# EAGLE library part ESP32-PICO-D4 (library SLJ_wireless)
ESP32 is a single 2.4 GHz Wi-Fi-and-Bluetooth combo chip designed with the TSMC ultra-low-power 40 nm technology. It is designed to achieve the best power and RF performance, showing robustness, versatility and reliability in a wide variety of applications and power scenarios.
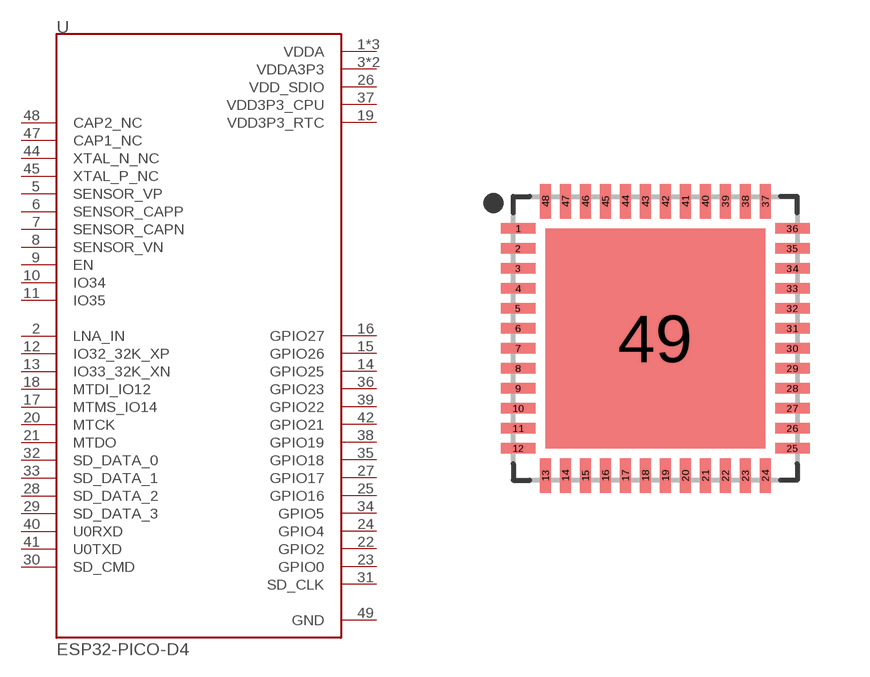
[diagram p2: symbol with the pads of QFN50P700X700X104-49T550; footprint QFN50P700X700X104-49T550]

Designator prefix U

## ESP32-PICO-D4 (MANUFACTURER: Espressif Systems; PART_NUMBER: ESP32-PICO-D4)  [QFN50P700X700X104-49T550]
1  VDDA  pwr
2  LNA_IN
3  VDDA3P3  pwr
4  VDDA3P3  pwr
5  SENSOR_VP  in
6  SENSOR_CAPP  in
7  SENSOR_CAPN  in
8  SENSOR_VN  in
9  EN  in
10  IO34  in
11  IO35  in
12  IO32_32K_XP
13  IO33_32K_XN
14  GPIO25
15  GPIO26
16  GPIO27
17  MTMS_IO14
18  MTDI_IO12
19  VDD3P3_RTC  pwr
20  MTCK
21  MTDO
22  GPIO2
23  GPIO0
24  GPIO4
25  GPIO16
26  VDD_SDIO  pwr
27  GPIO17
28  SD_DATA_2
29  SD_DATA_3
30  SD_CMD
31  SD_CLK
32  SD_DATA_0
33  SD_DATA_1
34  GPIO5
35  GPIO18
36  GPIO23
37  VDD3P3_CPU  pwr
38  GPIO19
39  GPIO22
40  U0RXD
41  U0TXD
42  GPIO21
43  VDDA  pwr
44  XTAL_N_NC  nc
45  XTAL_P_NC  nc
46  VDDA  pwr
47  CAP1_NC  nc
48  CAP2_NC  nc
49  GND  pwr

## Footprint QFN50P700X700X104-49T550 (pad centres in mm)
48-QFN, 0.50 mm pitch, 7.00 X 7.00 X 1.04 mm body, 5.50 X 5.50 mm thermal pad 48-pin QFN package with 0.50 mm pitch with body size 7.00 X 7.00 X 1.04 mm and thermal pad size 5.50 X 5.50 mm
smd 0.866 x 0.27: 1 -3.432,2.75; 2 -3.432,2.25; 3 -3.432,1.75; 4 -3.432,1.25; 5 -3.432,0.75; 6 -3.432,0.25; 7 -3.432,-0.25; 8 -3.432,-0.75; 9 -3.432,-1.25; 10 -3.432,-1.75; 11 -3.432,-2.25; 12 -3.432,-2.75; 25 3.432,-2.75; 26 3.432,-2.25; 27 3.432,-1.75; 28 3.432,-1.25; 29 3.432,-0.75; 30 3.432,-0.25; 31 3.432,0.25; 32 3.432,0.75; 33 3.432,1.25; 34 3.432,1.75; 35 3.432,2.25; 36 3.432,2.75
smd 0.27 x 0.866: 13 -2.75,-3.432; 14 -2.25,-3.432; 15 -1.75,-3.432; 16 -1.25,-3.432; 17 -0.75,-3.432; 18 -0.25,-3.432; 19 0.25,-3.432; 20 0.75,-3.432; 21 1.25,-3.432; 22 1.75,-3.432; 23 2.25,-3.432; 24 2.75,-3.432; 37 2.75,3.432; 38 2.25,3.432; 39 1.75,3.432; 40 1.25,3.432; 41 0.75,3.432; 42 0.25,3.432; 43 -0.25,3.432; 44 -0.75,3.432; 45 -1.25,3.432; 46 -1.75,3.432; 47 -2.25,3.432; 48 -2.75,3.432
smd 5.5 x 5.5: 49 0,0